# Altium schematic symbol library WE-RFH.SchLib: 17 symbols
Pins are listed as number, name and electrical type; pins without a type are passive.

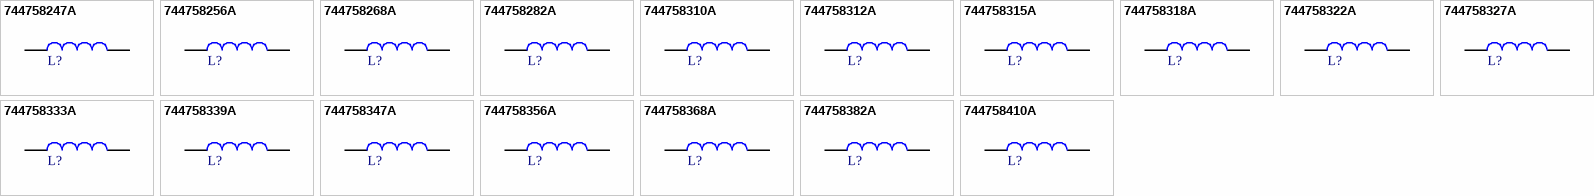
[diagram p0: symbols 744758247A to 744758410A]

## 744758247A
designator L?, comment 0.47µH  (value not drawn)
WE-RFH SMT Ferrite Inductor, size 1008A, 0.47µH, 0.47A, 1.18Ω; Manufacturer Part Number: 744758247A; Manufacturer: Wurth Elektronik; Inductance Tolerance: +/-5%; Q Factor: 45; Self Resonant Frequency: 450MHz; Category: RF Inductors; Match Code: WE-RFH; ComponentLink1Description: Website Link; ComponentLink1URL: https://www.we-online.com/redexpert/article/744758247A?ad; ComponentLink2Description: Datasheet Link; ComponentLink2URL: https://www.we-online.com/redexpert/spec/744758247A?ad; Mount: Surface Mount; Operating Temperature Max: 85°C; Operating Temperature Min: -40°C; Packaging: Tape and Reel; Case/Size Code: 1008A; Length: 2.6mm; Width: 2.1mm; Height: 1.7mm; DC Resistance Max: 1.18Ω; Inductance: 0.47µH; Rated Current: 0.47A
footprint WE-RFH_1008A
simulation model 1008A_744758247A_0.47u
pins: 1, 2

## 744758256A
designator L?, comment 0.56µH  (value not drawn)
WE-RFH SMT Ferrite Inductor, size 1008A, 0.56µH, 0.45A, 1.33Ω; Manufacturer Part Number: 744758256A; Manufacturer: Wurth Elektronik; Inductance Tolerance: +/-5%; Q Factor: 45; Self Resonant Frequency: 415MHz; Category: RF Inductors; Match Code: WE-RFH; ComponentLink1Description: Website Link; ComponentLink1URL: https://www.we-online.com/redexpert/article/744758256A?ad; ComponentLink2Description: Datasheet Link; ComponentLink2URL: https://www.we-online.com/redexpert/spec/744758256A?ad; Mount: Surface Mount; Operating Temperature Max: 85°C; Operating Temperature Min: -40°C; Packaging: Tape and Reel; Case/Size Code: 1008A; Length: 2.6mm; Width: 2.1mm; Height: 1.7mm; DC Resistance Max: 1.33Ω; Inductance: 0.56µH; Rated Current: 0.45A
footprint WE-RFH_1008A
simulation model 1008A_744758256A_0.56u
pins: 1, 2

## 744758268A
designator L?, comment 0.68µH  (value not drawn)
WE-RFH SMT Ferrite Inductor, size 1008A, 0.68µH, 0.48A, 1.2Ω; Manufacturer Part Number: 744758268A; Manufacturer: Wurth Elektronik; Inductance Tolerance: +/-5%; Q Factor: 40; Self Resonant Frequency: 375MHz; Category: RF Inductors; Match Code: WE-RFH; ComponentLink1Description: Website Link; ComponentLink1URL: https://www.we-online.com/redexpert/article/744758268A?ad; ComponentLink2Description: Datasheet Link; ComponentLink2URL: https://www.we-online.com/redexpert/spec/744758268A?ad; Mount: Surface Mount; Operating Temperature Max: 85°C; Operating Temperature Min: -40°C; Packaging: Tape and Reel; Case/Size Code: 1008A; Length: 2.6mm; Width: 2.1mm; Height: 1.7mm; DC Resistance Max: 1.2Ω; Inductance: 0.68µH; Rated Current: 0.48A
footprint WE-RFH_1008A
simulation model 1008A_744758268A_0.68u
pins: 1, 2

## 744758282A
designator L?, comment 0.82µH  (value not drawn)
WE-RFH SMT Ferrite Inductor, size 1008A, 0.82µH, 0.4A, 1.6Ω; Manufacturer Part Number: 744758282A; Manufacturer: Wurth Elektronik; Inductance Tolerance: +/-5%; Q Factor: 40; Self Resonant Frequency: 350MHz; Category: RF Inductors; Match Code: WE-RFH; ComponentLink1Description: Website Link; ComponentLink1URL: https://www.we-online.com/redexpert/article/744758282A?ad; ComponentLink2Description: Datasheet Link; ComponentLink2URL: https://www.we-online.com/redexpert/spec/744758282A?ad; Mount: Surface Mount; Operating Temperature Max: 85°C; Operating Temperature Min: -40°C; Packaging: Tape and Reel; Case/Size Code: 1008A; Length: 2.6mm; Width: 2.1mm; Height: 1.7mm; DC Resistance Max: 1.6Ω; Inductance: 0.82µH; Rated Current: 0.4A
footprint WE-RFH_1008A
simulation model 1008A_744758282A_0.82u
pins: 1, 2

## 744758310A
designator L?, comment 1µH  (value not drawn)
WE-RFH SMT Ferrite Inductor, size 1008A, 1µH, 0.37A, 1.7Ω; Manufacturer Part Number: 744758310A; Manufacturer: Wurth Elektronik; Inductance Tolerance: +/-5%; Q Factor: 33; Self Resonant Frequency: 180MHz; Category: RF Inductors; Match Code: WE-RFH; ComponentLink1Description: Website Link; ComponentLink1URL: https://www.we-online.com/redexpert/article/744758310A?ad; ComponentLink2Description: Datasheet Link; ComponentLink2URL: https://www.we-online.com/redexpert/spec/744758310A?ad; Mount: Surface Mount; Operating Temperature Max: 85°C; Operating Temperature Min: -40°C; Packaging: Tape and Reel; Case/Size Code: 1008A; Length: 2.6mm; Width: 2.1mm; Height: 1.7mm; DC Resistance Max: 1.7Ω; Inductance: 1µH; Rated Current: 0.37A
footprint WE-RFH_1008A
simulation model 1008A_744758310A_1u
pins: 1, 2

## 744758312A
designator L?, comment 1.2µH  (value not drawn)
WE-RFH SMT Ferrite Inductor, size 1008A, 1.2µH, 0.76A, 0.5Ω; Manufacturer Part Number: 744758312A; Manufacturer: Wurth Elektronik; Inductance Tolerance: +/-5%; Q Factor: 20; Self Resonant Frequency: 280MHz; Category: RF Inductors; Match Code: WE-RFH; ComponentLink1Description: Website Link; ComponentLink1URL: https://www.we-online.com/redexpert/article/744758312A?ad; ComponentLink2Description: Datasheet Link; ComponentLink2URL: https://www.we-online.com/redexpert/spec/744758312A?ad; Mount: Surface Mount; Operating Temperature Max: 85°C; Operating Temperature Min: -40°C; Packaging: Tape and Reel; Case/Size Code: 1008A; Length: 2.6mm; Width: 2.1mm; Height: 1.7mm; DC Resistance Max: 0.5Ω; Inductance: 1.2µH; Rated Current: 0.76A
footprint WE-RFH_1008A
simulation model 1008A_744758312A_1.2u
pins: 1, 2

## 744758315A
designator L?, comment 1.5µH  (value not drawn)
WE-RFH SMT Ferrite Inductor, size 1008A, 1.5µH, 0.63A, 0.75Ω; Manufacturer Part Number: 744758315A; Manufacturer: Wurth Elektronik; Inductance Tolerance: +/-5%; Q Factor: 20; Self Resonant Frequency: 250MHz; Category: RF Inductors; Match Code: WE-RFH; ComponentLink1Description: Website Link; ComponentLink1URL: https://www.we-online.com/redexpert/article/744758315A?ad; ComponentLink2Description: Datasheet Link; ComponentLink2URL: https://www.we-online.com/redexpert/spec/744758315A?ad; Mount: Surface Mount; Operating Temperature Max: 85°C; Operating Temperature Min: -40°C; Packaging: Tape and Reel; Case/Size Code: 1008A; Length: 2.6mm; Width: 2.1mm; Height: 1.7mm; DC Resistance Max: 0.75Ω; Inductance: 1.5µH; Rated Current: 0.63A
footprint WE-RFH_1008A
simulation model 1008A_744758315A_1.5u
pins: 1, 2

## 744758318A
designator L?, comment 1.8µH  (value not drawn)
WE-RFH SMT Ferrite Inductor, size 1008A, 1.8µH, 0.63A, 0.75Ω; Manufacturer Part Number: 744758318A; Manufacturer: Wurth Elektronik; Inductance Tolerance: +/-5%; Q Factor: 20; Self Resonant Frequency: 200MHz; Category: RF Inductors; Match Code: WE-RFH; ComponentLink1Description: Website Link; ComponentLink1URL: https://www.we-online.com/redexpert/article/744758318A?ad; ComponentLink2Description: Datasheet Link; ComponentLink2URL: https://www.we-online.com/redexpert/spec/744758318A?ad; Mount: Surface Mount; Operating Temperature Max: 85°C; Operating Temperature Min: -40°C; Packaging: Tape and Reel; Case/Size Code: 1008A; Length: 2.6mm; Width: 2.1mm; Height: 1.7mm; DC Resistance Max: 0.75Ω; Inductance: 1.8µH; Rated Current: 0.63A
footprint WE-RFH_1008A
simulation model 1008A_744758318A_1.8u
pins: 1, 2

## 744758322A
designator L?, comment 2.2µH  (value not drawn)
WE-RFH SMT Ferrite Inductor, size 1008A, 2.2µH, 0.52A, 1.1Ω; Manufacturer Part Number: 744758322A; Manufacturer: Wurth Elektronik; Inductance Tolerance: +/-5%; Q Factor: 20; Self Resonant Frequency: 160MHz; Category: RF Inductors; Match Code: WE-RFH; ComponentLink1Description: Website Link; ComponentLink1URL: https://www.we-online.com/redexpert/article/744758322A?ad; ComponentLink2Description: Datasheet Link; ComponentLink2URL: https://www.we-online.com/redexpert/spec/744758322A?ad; Mount: Surface Mount; Operating Temperature Max: 85°C; Operating Temperature Min: -40°C; Packaging: Tape and Reel; Case/Size Code: 1008A; Length: 2.6mm; Width: 2.1mm; Height: 1.7mm; DC Resistance Max: 1.1Ω; Inductance: 2.2µH; Rated Current: 0.52A
footprint WE-RFH_1008A
simulation model 1008A_744758322A_2.2u
pins: 1, 2

## 744758327A
designator L?, comment 2.7µH  (value not drawn)
WE-RFH SMT Ferrite Inductor, size 1008A, 2.7µH, 0.52A, 1.1Ω; Manufacturer Part Number: 744758327A; Manufacturer: Wurth Elektronik; Inductance Tolerance: +/-5%; Q Factor: 20; Self Resonant Frequency: 135MHz; Category: RF Inductors; Match Code: WE-RFH; ComponentLink1Description: Website Link; ComponentLink1URL: https://www.we-online.com/redexpert/article/744758327A?ad; ComponentLink2Description: Datasheet Link; ComponentLink2URL: https://www.we-online.com/redexpert/spec/744758327A?ad; Mount: Surface Mount; Operating Temperature Max: 85°C; Operating Temperature Min: -40°C; Packaging: Tape and Reel; Case/Size Code: 1008A; Length: 2.6mm; Width: 2.1mm; Height: 1.7mm; DC Resistance Max: 1.1Ω; Inductance: 2.7µH; Rated Current: 0.52A
footprint WE-RFH_1008A
simulation model 1008A_744758327A_2.7u
pins: 1, 2

## 744758333A
designator L?, comment 3.3µH  (value not drawn)
WE-RFH SMT Ferrite Inductor, size 1008A, 3.3µH, 0.46A, 1.35Ω; Manufacturer Part Number: 744758333A; Manufacturer: Wurth Elektronik; Inductance Tolerance: +/-5%; Q Factor: 20; Self Resonant Frequency: 120MHz; Category: RF Inductors; Match Code: WE-RFH; ComponentLink1Description: Website Link; ComponentLink1URL: https://www.we-online.com/redexpert/article/744758333A?ad; ComponentLink2Description: Datasheet Link; ComponentLink2URL: https://www.we-online.com/redexpert/spec/744758333A?ad; Mount: Surface Mount; Operating Temperature Max: 85°C; Operating Temperature Min: -40°C; Packaging: Tape and Reel; Case/Size Code: 1008A; Length: 2.6mm; Width: 2.1mm; Height: 1.7mm; DC Resistance Max: 1.35Ω; Inductance: 3.3µH; Rated Current: 0.46A
footprint WE-RFH_1008A
simulation model 1008A_744758333A_3.3u
pins: 1, 2

## 744758339A
designator L?, comment 3.9µH  (value not drawn)
WE-RFH SMT Ferrite Inductor, size 1008A, 3.9µH, 0.42A, 1.5Ω; Manufacturer Part Number: 744758339A; Manufacturer: Wurth Elektronik; Inductance Tolerance: +/-5%; Q Factor: 20; Self Resonant Frequency: 105MHz; Category: RF Inductors; Match Code: WE-RFH; ComponentLink1Description: Website Link; ComponentLink1URL: https://www.we-online.com/redexpert/article/744758339A?ad; ComponentLink2Description: Datasheet Link; ComponentLink2URL: https://www.we-online.com/redexpert/spec/744758339A?ad; Mount: Surface Mount; Operating Temperature Max: 85°C; Operating Temperature Min: -40°C; Packaging: Tape and Reel; Case/Size Code: 1008A; Length: 2.6mm; Width: 2.1mm; Height: 1.7mm; DC Resistance Max: 1.5Ω; Inductance: 3.9µH; Rated Current: 0.42A
footprint WE-RFH_1008A
simulation model 1008A_744758339A_3.9u
pins: 1, 2

## 744758347A
designator L?, comment 4.7µH  (value not drawn)
WE-RFH SMT Ferrite Inductor, size 1008A, 4.7µH, 0.4A, 1.65Ω; Manufacturer Part Number: 744758347A; Manufacturer: Wurth Elektronik; Inductance Tolerance: +/-5%; Q Factor: 20; Self Resonant Frequency: 60MHz; Category: RF Inductors; Match Code: WE-RFH; ComponentLink1Description: Website Link; ComponentLink1URL: https://www.we-online.com/redexpert/article/744758347A?ad; ComponentLink2Description: Datasheet Link; ComponentLink2URL: https://www.we-online.com/redexpert/spec/744758347A?ad; Mount: Surface Mount; Operating Temperature Max: 85°C; Operating Temperature Min: -40°C; Packaging: Tape and Reel; Case/Size Code: 1008A; Length: 2.6mm; Width: 2.1mm; Height: 1.7mm; DC Resistance Max: 1.65Ω; Inductance: 4.7µH; Rated Current: 0.4A
footprint WE-RFH_1008A
simulation model 1008A_744758347A_4.7u
pins: 1, 2

## 744758356A
designator L?, comment 5.6µH  (value not drawn)
WE-RFH SMT Ferrite Inductor, size 1008A, 5.6µH, 0.37A, 1.8Ω; Manufacturer Part Number: 744758356A; Manufacturer: Wurth Elektronik; Inductance Tolerance: +/-5%; Q Factor: 20; Self Resonant Frequency: 80MHz; Category: RF Inductors; Match Code: WE-RFH; ComponentLink1Description: Website Link; ComponentLink1URL: https://www.we-online.com/redexpert/article/744758356A?ad; ComponentLink2Description: Datasheet Link; ComponentLink2URL: https://www.we-online.com/redexpert/spec/744758356A?ad; Mount: Surface Mount; Operating Temperature Max: 85°C; Operating Temperature Min: -40°C; Packaging: Tape and Reel; Case/Size Code: 1008A; Length: 2.6mm; Width: 2.1mm; Height: 1.7mm; DC Resistance Max: 1.8Ω; Inductance: 5.6µH; Rated Current: 0.37A
footprint WE-RFH_1008A
simulation model 1008A_744758356A_5.6u
pins: 1, 2

## 744758368A
designator L?, comment 6.8µH  (value not drawn)
WE-RFH SMT Ferrite Inductor, size 1008A, 6.8µH, 0.36A, 2Ω; Manufacturer Part Number: 744758368A; Manufacturer: Wurth Elektronik; Inductance Tolerance: +/-5%; Q Factor: 20; Self Resonant Frequency: 70MHz; Category: RF Inductors; Match Code: WE-RFH; ComponentLink1Description: Website Link; ComponentLink1URL: https://www.we-online.com/redexpert/article/744758368A?ad; ComponentLink2Description: Datasheet Link; ComponentLink2URL: https://www.we-online.com/redexpert/spec/744758368A?ad; Mount: Surface Mount; Operating Temperature Max: 85°C; Operating Temperature Min: -40°C; Packaging: Tape and Reel; Case/Size Code: 1008A; Length: 2.6mm; Width: 2.1mm; Height: 1.7mm; DC Resistance Max: 2Ω; Inductance: 6.8µH; Rated Current: 0.36A
footprint WE-RFH_1008A
simulation model 1008A_744758368A_6.8u
pins: 1, 2

## 744758382A
designator L?, comment 8.2µH  (value not drawn)
WE-RFH SMT Ferrite Inductor, size 1008A, 8.2µH, 0.32A, 2.6Ω; Manufacturer Part Number: 744758382A; Manufacturer: Wurth Elektronik; Inductance Tolerance: +/-5%; Q Factor: 20; Self Resonant Frequency: 50MHz; Category: RF Inductors; Match Code: WE-RFH; ComponentLink1Description: Website Link; ComponentLink1URL: https://www.we-online.com/redexpert/article/744758382A?ad; ComponentLink2Description: Datasheet Link; ComponentLink2URL: https://www.we-online.com/redexpert/spec/744758382A?ad; Mount: Surface Mount; Operating Temperature Max: 85°C; Operating Temperature Min: -40°C; Packaging: Tape and Reel; Case/Size Code: 1008A; Length: 2.6mm; Width: 2.1mm; Height: 1.7mm; DC Resistance Max: 2.6Ω; Inductance: 8.2µH; Rated Current: 0.32A
footprint WE-RFH_1008A
simulation model 1008A_744758382A_8.2u
pins: 1, 2

## 744758410A
designator L?, comment 10µH  (value not drawn)
WE-RFH SMT Ferrite Inductor, size 1008A, 10µH, 0.3A, 2.8Ω; Manufacturer Part Number: 744758410A; Manufacturer: Wurth Elektronik; Inductance Tolerance: +/-5%; Q Factor: 15; Self Resonant Frequency: 40MHz; Category: RF Inductors; Match Code: WE-RFH; ComponentLink1Description: Website Link; ComponentLink1URL: https://www.we-online.com/redexpert/article/744758410A?ad; ComponentLink2Description: Datasheet Link; ComponentLink2URL: https://www.we-online.com/redexpert/spec/744758410A?ad; Mount: Surface Mount; Operating Temperature Max: 85°C; Operating Temperature Min: -40°C; Packaging: Tape and Reel; Case/Size Code: 1008A; Length: 2.6mm; Width: 2.1mm; Height: 1.7mm; DC Resistance Max: 2.8Ω; Inductance: 10µH; Rated Current: 0.3A
footprint WE-RFH_1008A
simulation model 1008A_744758410A_10u
pins: 1, 2